# Altium footprint library TE_5-534998-7.PcbLib: 1 footprints
Each footprint in its own frame and in the unit in brackets; x right, y up, seen from the top. Pads: shape width x height; smd on the part's side, far side on the other; paste and mask are expansions set on the pad; w line width, h text height; cw(c..) or ccw(c..) is an arc to the next point about the centre after c.
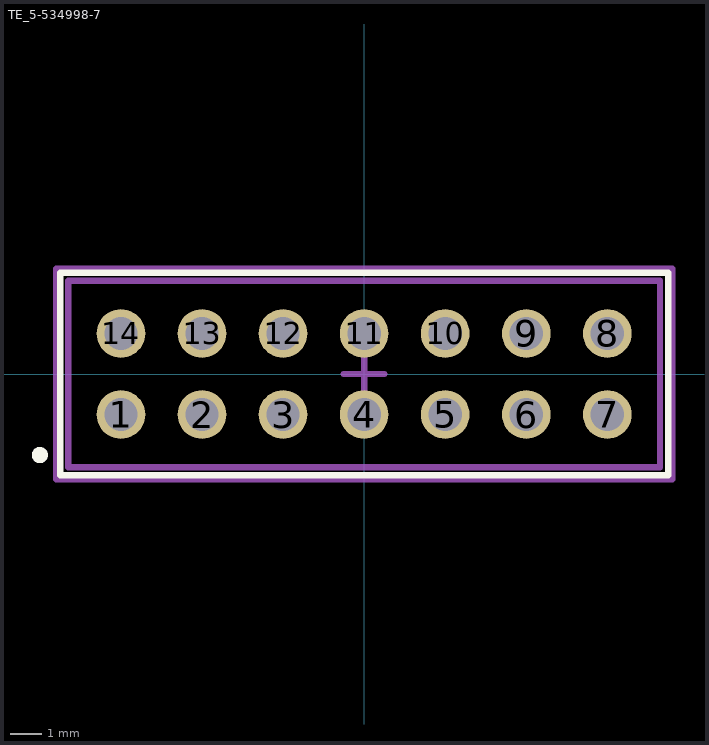
[diagram p0: the footprint, top view; thin cyan lines are the x and y axes]

## TE_5-534998-7 [mil]
pads (14):
  round 60 hole 41: 1(-300,-50) 2(-200,-50) 3(-100,-50) 4(0,-50) 5(100,-50) 6(200,-50) 7(300,-50) 8(300,50) 9(200,50) 10(100,50) 11(0,50) 12(-100,50) 13(-200,50) 14(-300,50)
Top Overlay:
  circle w10: c-400,-100 r5
  lines w7.87: -375,-125 375,-125 375,125 -375,125 -375,-125
Mechanical 15:
  lines w7.87: -25,0 25,0 ; 0,-25 0,25 ; -380,-130 380,-130 380,130 -380,130 -380,-130
Mechanical 17:
  lines w7.87: -365,-115 -365,115 365,115 365,-115 -365,-115
  text ".Designator" at -325,-65 h60
Mechanical 19:
  lines w7.87: -365,-115 365,-115 365,115 -365,115 -365,-115
  text ".Comment" at -320,-80 h60
3D body: height 265, standoff -125, extent -350,-99 350,99